# Altium footprint library EEEFN1V221V.PcbLib: 1 footprints
Each footprint in its own frame and in the unit in brackets; x right, y up, seen from the top. Pads: shape width x height; smd on the part's side, far side on the other; paste and mask are expansions set on the pad; w line width, h text height; cw(c..) or ccw(c..) is an arc to the next point about the centre after c.
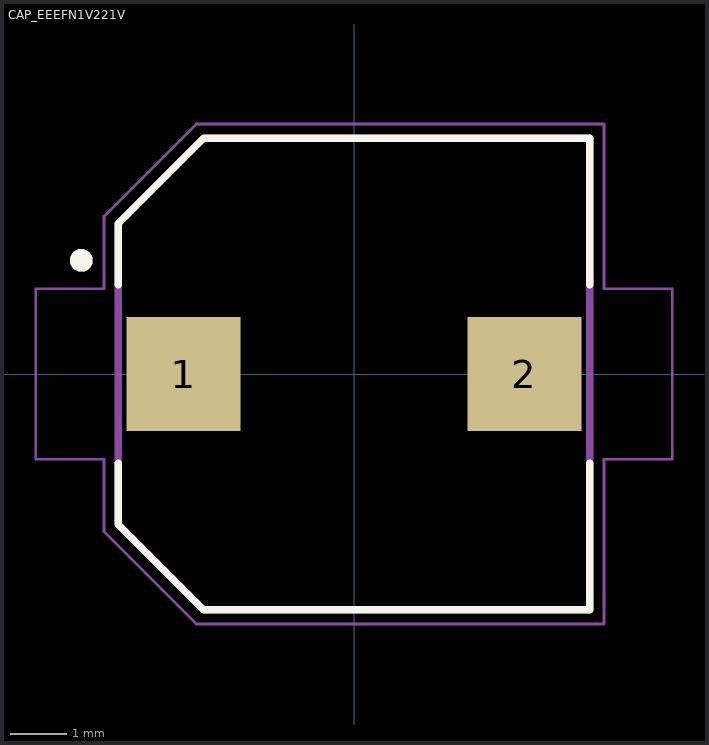
[diagram p0: the footprint, top view; thin cyan lines are the x and y axes]

## CAP_EEEFN1V221V [mm]
pads (2):
  rect 2x2 smd paste-2 mask+0: 1(-3,0) 2(3,0)
Top Overlay:
  circle w0.2: c-4.8,2 r0.1
  lines w0.127: -4.15,-1.57 -4.15,-2.65 -2.65,-4.15 4.15,-4.15 4.15,-1.57 ; -4.15,1.57 -4.15,2.65 -2.65,4.15 4.15,4.15 4.15,1.57
Mechanical 13:
  circle w0.2: c-4.8,2 r0.1
  lines w0.127: -4.15,-2.65 -2.65,-4.15 4.15,-4.15 4.15,4.15 -2.65,4.15 -4.15,2.65 -4.15,-2.65
Mechanical 15:
  lines w0.05: -5.6,-1.5 -5.6,1.5 -4.4,1.5 -4.4,2.775 -2.775,4.4 4.4,4.4 4.4,1.5 5.6,1.5 5.6,-1.5 4.4,-1.5 4.4,-4.4 -2.775,-4.4 -4.4,-2.775 -4.4,-1.5 -5.6,-1.5
3D body "step_temp.STEP": height 10.5, standoff 0, extent -4.85,-4.15 4.85,4.15